# Altium schematic symbol library lib_ic_MSC.SchLib: 13 symbols
Pins are listed as number, name and electrical type; pins without a type are passive.

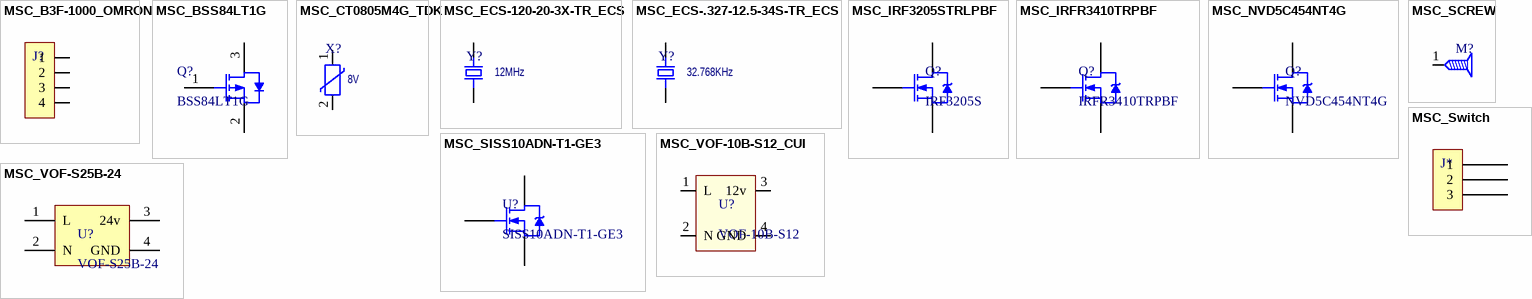
[diagram p0: symbols MSC_B3F-1000_OMRON to MSC_VOF-S25B-24]

## MSC_B3F-1000_OMRON
designator J?  (value not drawn)
SWITCH TACTILE SPST-NO 0.05A 24V; Manufacturer Part Number: B3F-1000; Manufacturer: Omron Electronics Inc-EMC Div; Mouser Part Number: 653-B3F-1000; Digikey Part Number: SW400-ND
footprint SW_1825910-6 (1825910-6 (Formerly FSM4JH) Push Button)
pins: 1, 2, 3, 4

## MSC_BSS84LT1G
designator Q?, comment BSS84LT1G
P-Channel MOSFET, 130 mA, 50 V, 3-Pin SOT-23 ON Semiconductor BSS84LT1G; Rise Time: 1ns; Rds On Max: 10R; Input Capacitance: 30pF; Number of Elements: 1; Max Power Dissipation: 225mW; Drain to Source Voltage (Vdss): 50V; Continuous Drain Current (ID): 130mA; Turn-Off Delay Time: 16ns; Turn-On Delay Time: 3.6ns; Gate to Source Voltage (Vgs): 20V; Nominal Vgs: 2V; Threshold Voltage: -2V; Element Configuration: Single; Voltage Rating (DC): -50V; Current Rating: -130mA; Supplier 1: Digi-Key; Supplier Part Number 1: BSS84LT1GOSCT-ND; Manufacturer: ON Semiconductor; Manufacturer Part Number: BSS84LT1G; RoHS: Yes; Category: MOSFETs; Stock 1: 539831; Pricing 1: 1=0,28000, 10=0,23200, 25=0,19440, 100=0,09500, 500=0,07928, 1000=0,05508 (USD); Case/Package: SOT-23-3; Number of Pins: 3; Contact Plating: Tin,Matte; Min Operating Temperature: -55°C; Max Operating Temperature: 150°C; Package Quantity: 1; Packaging: Tape and Reel; Fall Time: 1ns; Power Dissipation: 225mW; Drain to Source Breakdown Voltage: 50V; Drain to Source Resistance: 10R; On-State Resistance: 10R; Length: 0.119inch; Width: 0.055inch; Height: 0.04inch; Radiation Hardening: No; Lead Free: Lead Free; REACH SVHC: No SVHC; Halogen Free: Halogen Free; ComponentLink1URL: https://datasheet.ciiva.com/1190/86068-1190258.pdf?src-supplier=Element14; ComponentLink1Description: https://datasheet.ciiva.com/1190/86068-1190258.pdf?src-supplier=Element14; ComponentLink2URL: https://datasheet.ciiva.com/15198/getdatasheetpartid-86905-15198910.pdf?src-supplier=Verical; ComponentLink2Description: https://datasheet.ciiva.com/15198/getdatasheetpartid-86905-15198910.pdf?src-supplier=Verical; ComponentLink3URL: https://datasheet.ciiva.com/1255/1747989-1255091.pdf?src-supplier=Newark; ComponentLink3Description: https://datasheet.ciiva.com/1255/1747989-1255091.pdf?src-supplier=Newark; ComponentLink4URL: https://datasheet.ciiva.com/27054/1920992-27054773.pdf?src-supplier=Jameco; ComponentLink4Description: https://datasheet.ciiva.com/27054/1920992-27054773.pdf?src-supplier=Jameco; ComponentLink5URL: https://datasheet.ciiva.com/16335/bss84lt1-d-16335336.pdf?src-supplier=Future+Electronics; ComponentLink5Description: https://datasheet.ciiva.com/16335/bss84lt1-d-16335336.pdf?src-supplier=Future+Electronics; ComponentLink6URL: https://datasheet.ciiva.com/6380/bss84lt1-d-6380649.pdf?src-supplier=Digi-Key; ComponentLink6Description: https://datasheet.ciiva.com/6380/bss84lt1-d-6380649.pdf?src-supplier=Digi-Key; ComponentLink7URL: https://datasheet.ciiva.com/6380/bss84lt1-d-6380651.pdf?src-supplier=Digi-Key; ComponentLink7Description: https://datasheet.ciiva.com/6380/bss84lt1-d-6380651.pdf?src-supplier=Digi-Key; ComponentLink8URL: https://datasheet.ciiva.com/6380/bss84lt1-d-6380652.pdf?src-supplier=Digi-Key; ComponentLink8Description: https://datasheet.ciiva.com/6380/bss84lt1-d-6380652.pdf?src-supplier=Digi-Key; ComponentLink9URL: https://datasheet.ciiva.com/26146/bss84lt1-d-26146231.pdf?src-supplier=Avnet+Europe; ComponentLink9Description: https://datasheet.ciiva.com/26146/bss84lt1-d-26146231.pdf?src-supplier=Avnet+Europe; ComponentLink10URL: https://datasheet.ciiva.com/11168/bss84lt1-d-11168266.pdf?src-supplier=Avnet; ComponentLink10Description: https://datasheet.ciiva.com/11168/bss84lt1-d-11168266.pdf?src-supplier=Avnet; ComponentLink11URL: https://datasheet.ciiva.com/8115/bss84lt1-d-8115421.pdf?src-supplier=Avnet; ComponentLink11Description: https://datasheet.ciiva.com/8115/bss84lt1-d-8115421.pdf?src-supplier=Avnet; ComponentLink12URL: https://datasheet.ciiva.com/1190/86068-1190259.pdf?src-supplier=Element14; ComponentLink12Description: https://datasheet.ciiva.com/1190/86068-1190259.pdf?src-supplier=Element14
footprint BSS84LT1G (SOT23, 3-Leads, Body 2.92x1.3mm, Pitch 0.95mm)
pins: 1 G, 2 S, 3 D

## MSC_CT0805M4G_TDK
designator X?  Voltage Rating: 8V  (hidden comment: *)
VARISTOR 8V 100A 0805; Mouser Part Number: *; Digikey Part Number: *; Manufacturer Part Number: *
footprint RESC2013X065BN (Chip Resistor, 0805, Body 2.0x1.3mm, Pads modified for 1mm spacing.)
pins: 1 T1, 2 T2

## MSC_ECS-120-20-3X-TR_ECS
designator Y?  value 12MHz  (hidden comment: *)
12 MHz ±30 ppm Cristales 20 pF 60 Ohm -10°C ~ 70°C Montaje en superficie HC49/US; Manufacturer: ECS Inc.; Manufacturer Part Number: ECS-120-20-3X-TR; BOM Populate: *; Digikey Part Number: XC1770DKR-ND; Supplier: *; Supplier Part No: *; Tolerance: *; Power Rating: *; Voltage Rating: *; Mouser Part Number: 520-120-20-3XT
footprint CSM-3X (Quartz Crystal, SM; Body 7.00 mm x 4.10 mm x 2.30 mm)
pins: 1, 2

## MSC_ECS-.327-12.5-34S-TR_ECS
designator Y?  value 32.768KHz  (hidden comment: *)
CRYSTAL 32.7680KHZ 12.5PF SMD; Manufacturer: ECS; Manufacturer Part Number: ECS-.327-12.5-34S-TR; BOM Populate: *; Digikey Part Number: XC1967CT-ND; Supplier: *; Supplier Part No: *; Tolerance: *; Power Rating: *; Voltage Rating: *; Mouser Part Number: 520-ECS32.7-12.534ST
footprint XTAL3215X090N (Crystal, Body: 3.2mmm X 1.5mm)
pins: 1, 2

## MSC_IRF3205STRLPBF
designator Q?, comment IRF3205S
INFINEON         IRF3205STRLPBF             MOSFET Transistor, N Channel, 110 A, 55 V, 0.008 ohm, 10 V, 4 V; Continuous Drain Current (ID): 110A; Gate to Source Voltage (Vgs): 20V; Input Capacitance: 3.247nF; Power Dissipation: 200W; Turn-Off Delay Time: 50ns; Turn-On Delay Time: 14ns; Drain to Source Voltage (Vdss): 55V; Rds On Max: 8mR; Threshold Voltage: 4V; Supplier 1: Digi-Key; Manufacturer: Infineon; Manufacturer Part Number: IRF3205STRLPBF; RoHS: Yes; Category: MOSFETs; Stock 1: 754; Pricing 1: 1=1,74000, 10=1,42600, 25=1,39920, 100=1,10880 (USD); Mount: Surface Mount; Case/Package: D2PAK; Number of Pins: 3; Min Operating Temperature: -55°C; Max Operating Temperature: 175°C; Packaging: Cut Tape; Max Power Dissipation: 200W; Drain to Source Breakdown Voltage: 55V; Drain to Source Resistance: 8mR; Max Dual Supply Voltage: 55V; Length: 0.42inch; Width: 0.38inch; Height: 0.19inch; Lead Free: Contains Lead; REACH SVHC: No SVHC; Halogen Free: Halogen Free; ComponentLink1URL: https://www.alliedelec.com/m/d/b8827ca43655240244f0cc5c2198e6b1.pdf?src-supplier=Allied+Electronics; ComponentLink1Description: https://www.alliedelec.com/m/d/b8827ca43655240244f0cc5c2198e6b1.pdf?src-supplier=Allied+Electronics; ComponentLink2URL: http://www.infineon.com/dgdl/irf3205spbf.pdf?fileId=5546d462533600a4015355defac9190c&src-supplier=Digi-Key; ComponentLink2Description: http://www.infineon.com/dgdl/irf3205spbf.pdf?fileId=5546d462533600a4015355defac9190c&src-supplier=Digi-Key; ComponentLink3URL: http://www.farnell.com/datasheets/1884183.pdf?src-supplier=Element14; ComponentLink3Description: http://www.farnell.com/datasheets/1884183.pdf?src-supplier=Element14; ComponentLink4URL: https://www.infineon.com/dgdl/irf3205spbf.pdf?fileId=5546d462533600a4015355defac9190c&src-supplier=Digi-Key; ComponentLink4Description: https://www.infineon.com/dgdl/irf3205spbf.pdf?fileId=5546d462533600a4015355defac9190c&src-supplier=Digi-Key; Supplier Part Number 1: IRF3205STRLPBFCT-ND
footprint FP-PG-TO263-3-MFG
pins: 1 G, 2 D, 3 S

## MSC_IRFR3410TRPBF
designator Q?, comment IRFR3410TRPBF
MOSFET N-CH 100V 31A 3-Pin(2+Tab) DPAK T/R; Manufacturer: International Rectifier; Gate to Source Voltage (Vgs): 20V; Number of Elements: 1; Fall Time: 13ns; Power Dissipation: 3W; Turn-Off Delay Time: 40ns; Turn-On Delay Time: 12ns; Rise Time: 27ns; On-State Resistance: 39MR; Input Capacitance: 1.69nF; Element Configuration: Single; Supplier 1: Digi-Key; Supplier Part Number 1: IRFR3410TRLPBFCT-ND; Manufacturer Part Number: IRFR3410TRPBF; RoHS: Yes; Category: MOSFETs; Stock 1: 7760; Pricing 1: 1=0,87000, 10=0,77700, 25=0,73760, 100=0,55310, 500=0,46886, 1000=0,38193 (USD); Mount: Surface Mount; Case/Package: DPAK; Number of Pins: 3; Min Operating Temperature: -55°C; Max Operating Temperature: 175°C; Continuous Drain Current (ID): 31A; Max Power Dissipation: 3W; Drain to Source Voltage (Vdss): 100V; Drain to Source Breakdown Voltage: 100V; Drain to Source Resistance: 39mR; Packaging: Tape and Reel; Package Quantity: 2000; Rds On Max: 39mR; Length: 6.73mm; Height: 2.39mm; Width: 6.22mm; Radiation Hardening: No; Lead Free: Lead Free; REACH SVHC: No SVHC; ComponentLink1URL: https://datasheet.ciiva.com/16442/irfr3410pbf-16442124.pdf?src-supplier=Future+Electronics; ComponentLink1Description: https://datasheet.ciiva.com/16442/irfr3410pbf-16442124.pdf?src-supplier=Future+Electronics; ComponentLink2URL: https://datasheet.ciiva.com/29755/irfr3410pbf-29755317.pdf?src-supplier=Digi-Key; ComponentLink2Description: https://datasheet.ciiva.com/29755/irfr3410pbf-29755317.pdf?src-supplier=Digi-Key
pins: 1 G, 2 D, 3 S

## MSC_NVD5C454NT4G
designator Q?, comment NVD5C454NT4G
Manufacturer: ON Semiconductor; Drain to Source Voltage (Vdss): 40V; Continuous Drain Current (ID): 82A; Rds On Max: 4.2mR; Input Capacitance: 1.9nF; Max Power Dissipation: 56W; Supplier 1: Digi-Key; Supplier Part Number 1: NVD5C454NT4GOSCT-ND; Manufacturer Part Number: NVD5C454NT4G; RoHS: No; Stock 1: 2726; Pricing 1: 1=0,99000, 10=0,88100, 25=0,83600, 100=0,62690, 500=0,53134, 1000=0,43283 (USD); Mount: Surface Mount; Case/Package: DPAK; Min Operating Temperature: -55°C; Max Operating Temperature: 175°C; Packaging: Tape and Reel; ComponentLink1URL: http://www.onsemi.com/pub/Collateral/NVD5C454N-D.PDF?src-supplier=Digi-Key; ComponentLink1Description: http://www.onsemi.com/pub/Collateral/NVD5C454N-D.PDF?src-supplier=Digi-Key
footprint TO-252-3 DPAK 369C
pins: 1 G, 3 S, 4 D

## MSC_SCREW
designator M?  (value not drawn)  (no BOM)
SCREW; BOM Populate: *; Tolerance: *; Power Rating: *; Voltage Rating: *
footprint MH310 (Mounting Hole, 3.1mm diameter)
footprint MH400 (Mounting Hole, 4mm diameter - 8mm Clearance)
footprint MH425X710 (Single THT Connector for Screw (4.25mm Hole X 7.10mm Pad))
footprint MH305 (Mounting Hole, 3.05mm diameter)
footprint MH485 (Mounting Hole, 4.85mm diameter - 3.1mm Clearance - Non Plated)
footprint MH320 (Mounting Hole, 3.2mm diameter)
pins: 1 (power)

## MSC_SISS10ADN-T1-GE3
designator U?, comment SISS10ADN-T1-GE3
MOSFET; Manufacturer: Vishay Siliconix; Drain to Source Voltage (Vdss): 40V; Continuous Drain Current (ID): 109A; Rds On Max: 2.65mR; Input Capacitance: 3.03nF; Max Power Dissipation: 56.8W; Supplier 1: Digi-Key; Supplier Part Number 1: SISS10ADN-T1-GE3CT-ND; Manufacturer Part Number: SISS10ADN-T1-GE3; RoHS: No; Stock 1: 11293; Pricing 1: 1=0,62000, 10=0,54800, 25=0,51520, 100=0,37400, 500=0,31246, 1000=0,26592 (USD); Mount: Surface Mount; Min Operating Temperature: -55°C; Max Operating Temperature: 150°C; Packaging: Tape and Reel; ComponentLink1URL: http://www.vishay.com/docs/79237/siss10adn.pdf?src-supplier=Digi-Key; ComponentLink1Description: http://www.vishay.com/docs/79237/siss10adn.pdf?src-supplier=Digi-Key
footprint SISS10ADN-T1-G3
pins: 1 G, 2 D, 3 S

## MSC_Switch
designator J*  (value not drawn)
footprint SW_FSMRA3JH (FSMRA3JH Push Button)
pins: 1, 2, 3

## MSC_VOF-10B-S12_CUI
designator U?, comment VOF-10B-S12
AC/DC CONVERTER 12V 10W; Digikey Part Number: 102-4145-ND; Manufacturer Part Number: VOF-10B-S12; Mouser Part Number: 490-VOF-10B-S12
footprint SS_VOF-10B-S12
pins: 1 L, 2 N, 3 12v, 4 GND

## MSC_VOF-S25B-24
designator U?, comment VOF-S25B-24
AC/DC CONVERTER 24V 25W; Manufacturer: CUI; Supplier 1: Digi-Key; Supplier Part Number 1: 102-VOF-S25B-24-ND; Manufacturer Part Number: VOF-S25B-24; RoHS: No; Stock 1: 25; Pricing 1: 1=20,23000, 5=19,63600, 10=19,04000, 25=18,44520, 50=17,85000, 100=17,25500, 250=16,66000, 500=16,36250 (USD)
footprint SS_VOF-S25B-24
pins: 1 L, 2 N, 3 24v, 4 GND